# Altium footprint library 691 313 410 0xx.PcbLib: 6 footprints
Each footprint in its own frame and in the unit in brackets; x right, y up, seen from the top. Pads: shape width x height; smd on the part's side, far side on the other; paste and mask are expansions set on the pad; w line width, h text height; cw(c..) or ccw(c..) is an arc to the next point about the centre after c.
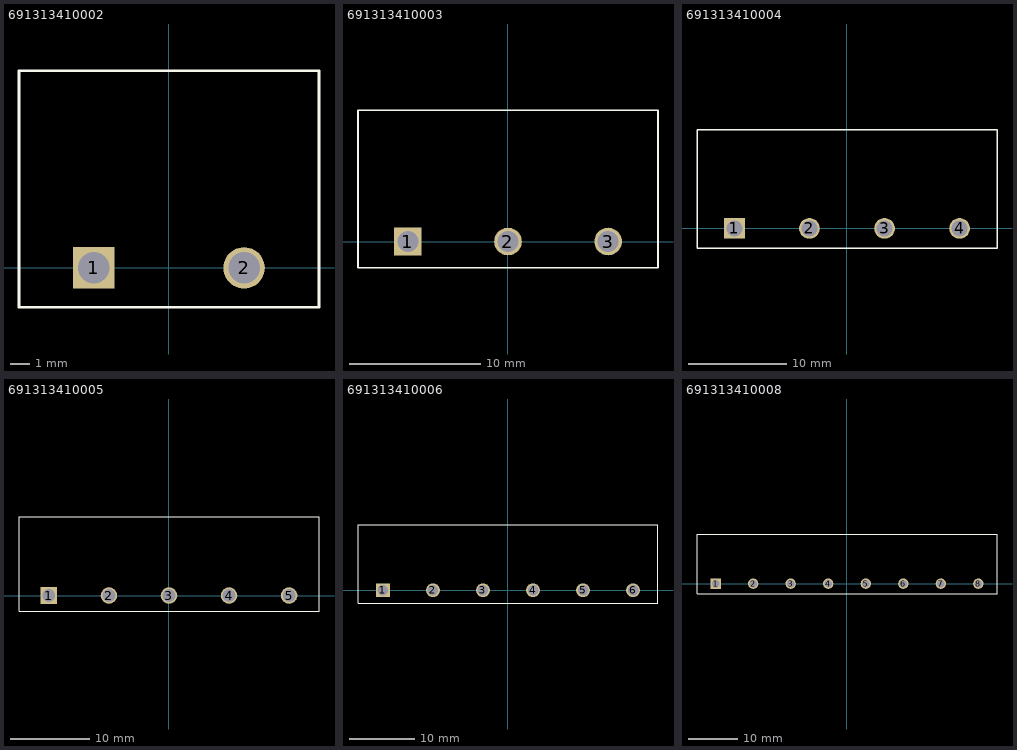
[diagram p0: the footprints below, top view; thin cyan lines are the x and y axes]

## 691313410002 [mm] "7.62 mm - Closed Horizonal PCB Header - 2p"
height 8.5
pads (2):
  rect 2.1x2.1 hole 1.6: 1(-3.81,0)
  round 2.1 hole 1.6: 2(3.81,0)
Top Overlay:
  lines w0.127: -7.61,-2 -7.61,10 7.61,10 7.61,-2 -7.61,-2
3D body: height 8.55, standoff -3.95, extent -7.62,-2 7.62,10

## 691313410003 [mm] "7.62 mm - Closed Horizonal PCB Header - 3p"
height 8.5
pads (3):
  rect 2.1x2.1 hole 1.6: 1(-7.62,0)
  round 2.1 hole 1.6: 2(0,0) 3(7.62,0)
Top Overlay:
  lines w0.127: -11.42,-2 11.42,-2 11.42,10 -11.42,10 -11.42,-2
3D body: height 8.55, standoff -3.95, extent -11.43,-2 11.43,10

## 691313410004 [mm] "7.62 mm - Closed Horizonal PCB Header - 4p"
height 8.5
pads (4):
  rect 2.1x2.1 hole 1.6: 1(-11.43,0)
  round 2.1 hole 1.6: 2(-3.81,0) 3(3.81,0) 4(11.43,0)
Top Overlay:
  lines w0.127: -15.23,-2 15.23,-2 15.23,10 -15.23,10 -15.23,-2
3D body: height 8.55, standoff -3.95, extent -15.24,-2 15.24,10

## 691313410005 [mm] "7.62 mm - Closed Horizonal PCB Header - 5p"
height 8.5
pads (5):
  rect 2.1x2.1 hole 1.6: 1(-15.24,0)
  round 2.1 hole 1.6: 2(-7.62,0) 3(0,0) 4(7.62,0) 5(15.24,0)
Top Overlay:
  lines w0.127: -19.04,-2 -19.04,10 19.04,10 19.04,-2 -19.04,-2
3D body: height 8.55, standoff -3.95, extent -19.05,-2 19.05,10

## 691313410006 [mm] "7.62 mm - Closed Horizonal PCB Header - 6p"
height 8.5
pads (6):
  rect 2.1x2.1 hole 1.6: 1(-19.05,0)
  round 2.1 hole 1.6: 2(-11.43,0) 3(-3.81,0) 4(3.81,0) 5(11.43,0) 6(19.05,0)
Top Overlay:
  lines w0.127: -22.85,-2 -22.85,10 22.85,10 22.85,-2 -22.85,-2
3D body: height 8.55, standoff -3.95, extent -22.86,-2 22.86,10

## 691313410008 [mm] "7.62 mm - Closed Horizonal PCB Header - 8p"
height 8.5
pads (8):
  rect 2.1x2.1 hole 1.6: 1(-26.67,0)
  round 2.1 hole 1.6: 2(-19.05,0) 3(-11.43,0) 4(-3.81,0) 5(3.81,0) 6(11.43,0) 7(19.05,0) 8(26.67,0)
Top Overlay:
  lines w0.127: -30.47,-2 30.47,-2 30.47,10 -30.47,10 -30.47,-2
3D body: height 8.55, standoff -3.95, extent -30.48,-2 30.48,10